# EAGLE library part MSP430F1232_BOARD (library andereBauteile)
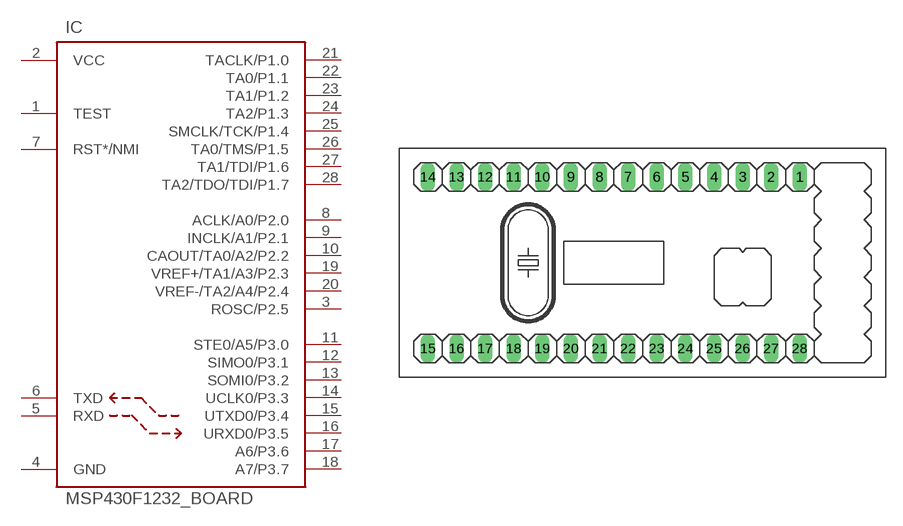
[diagram p41: symbol with the pads of MSP430F1232_BOARD; footprint MSP430F1232_BOARD]

Designator prefix IC

## MSP430F1232_BOARD  [MSP430F1232_BOARD]
1  TEST
2  VCC  pwr
3  ROSC/P2.5
4  GND  pwr
5  RXD
6  TXD
7  RST*/NMI  in
8  ACLK/A0/P2.0
9  INCLK/A1/P2.1
10  CAOUT/TA0/A2/P2.2
11  STE0/A5/P3.0
12  SIMO0/P3.1
13  SOMI0/P3.2
14  UCLK0/P3.3
15  UTXD0/P3.4
16  URXD0/P3.5
17  A6/P3.6
18  A7/P3.7
19  VREF+/TA1/A3/P2.3
20  VREF-/TA2/A4/P2.4
21  TACLK/P1.0
22  TA0/P1.1
23  TA1/P1.2
24  TA2/P1.3
25  SMCLK/TCK/P1.4
26  TA0/TMS/P1.5
27  TA1/TDI/P1.6
28  TA2/TDO/TDI/P1.7

## Footprint MSP430F1232_BOARD (pad centres in mm)
drill 0.8 long: 1 16.51,7.62; 2 13.97,7.62; 3 11.43,7.62; 4 8.89,7.62; 5 6.35,7.62; 6 3.81,7.62; 7 1.27,7.62; 8 -1.27,7.62; 9 -3.81,7.62; 10 -6.35,7.62; 11 -8.89,7.62; 12 -11.43,7.62; 13 -13.97,7.62; 14 -16.51,7.62; 15 -16.51,-7.62; 16 -13.97,-7.62; 17 -11.43,-7.62; 18 -8.89,-7.62; 19 -6.35,-7.62; 20 -3.81,-7.62; 21 -1.27,-7.62; 22 1.27,-7.62; 23 3.81,-7.62; 24 6.35,-7.62; 25 8.89,-7.62; 26 11.43,-7.62; 27 13.97,-7.62; 28 16.51,-7.62